# Altium schematic symbol library Test Development.SchLib: 36 symbols
Pins are listed as number, name and electrical type; pins without a type are passive.

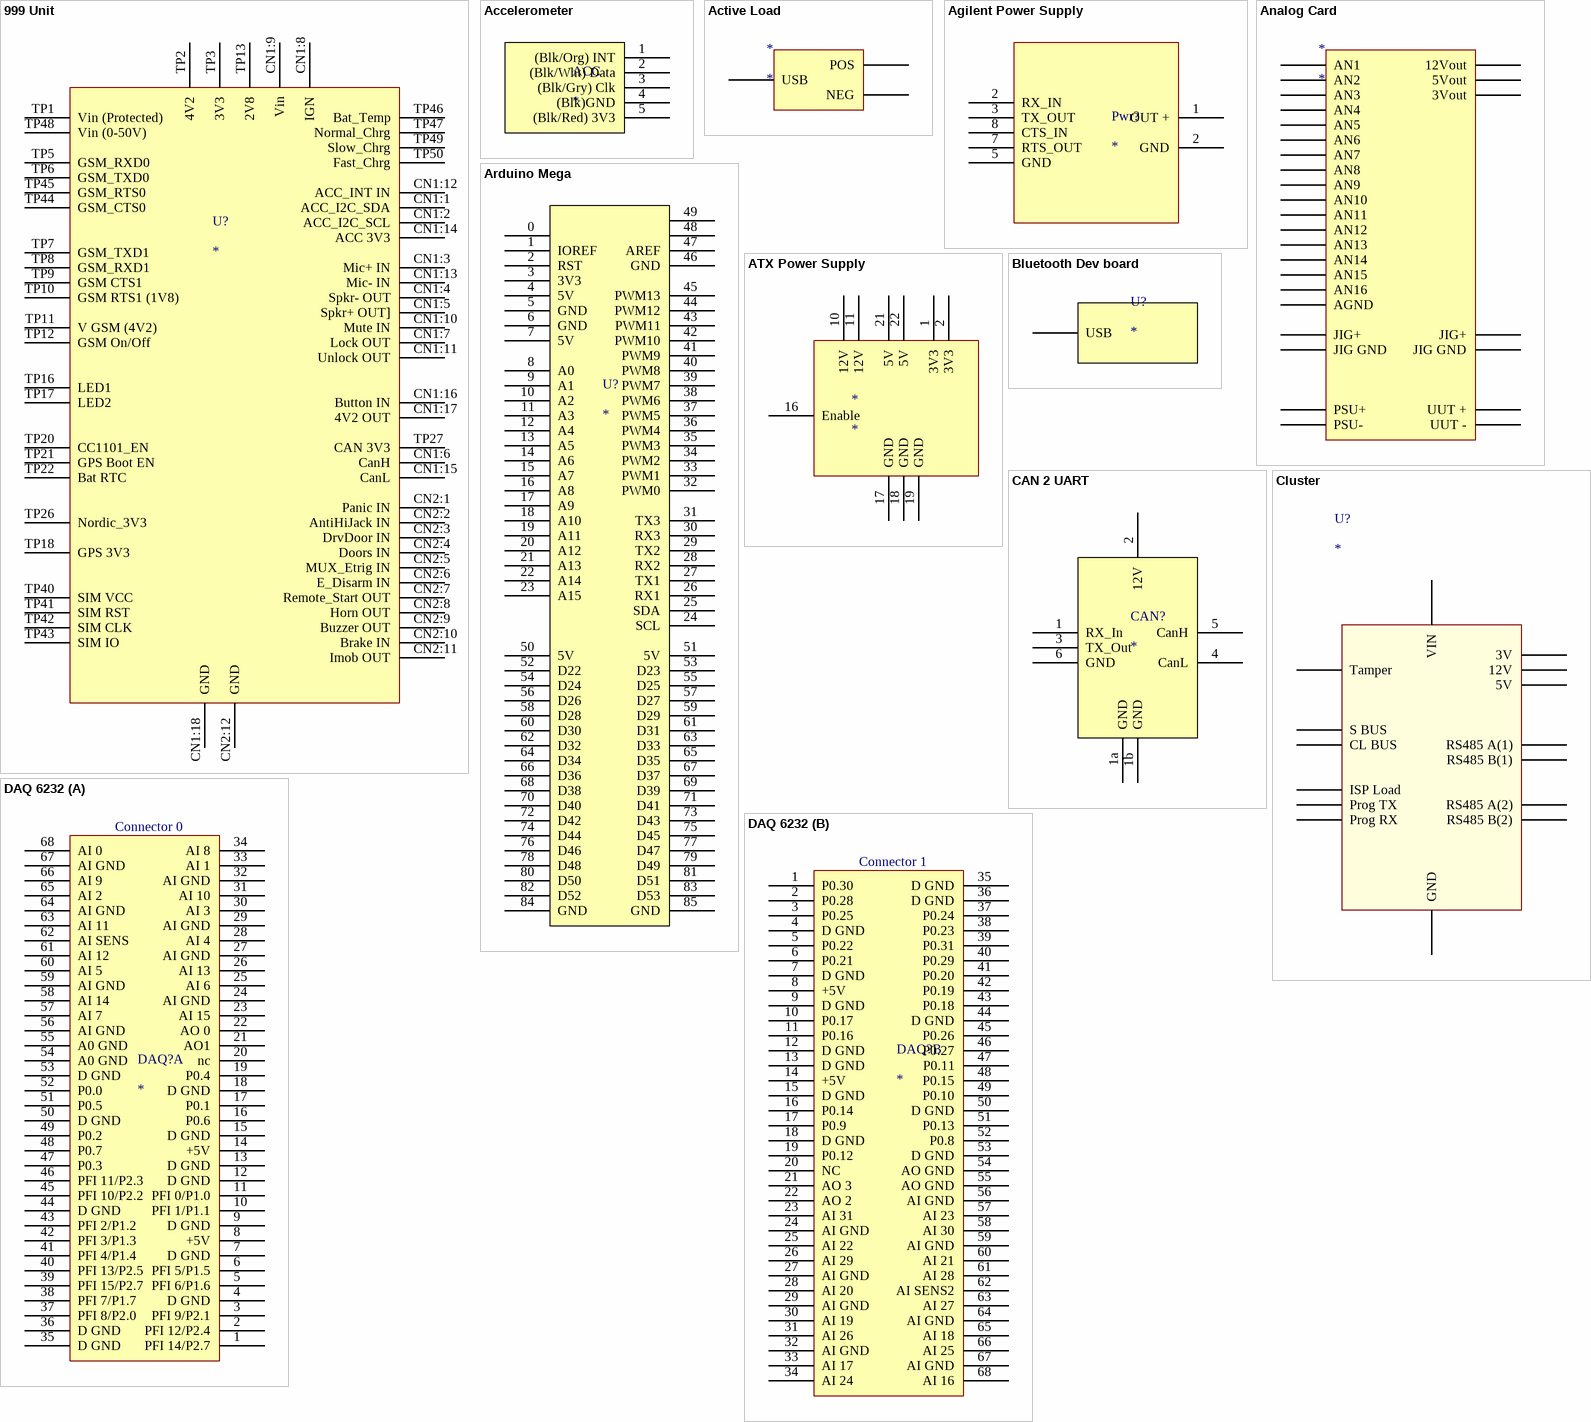
[diagram p0: symbols 999 Unit to DAQ 6232]

## 999 Unit
designator U?
999 Unit
pins: CN1:1 ACC_I2C_SDA, CN1:2 ACC_I2C_SCL, CN1:3 Mic+ IN, CN1:4 Spkr- OUT, CN1:5 Spkr+ OUT], CN1:6 CanH, CN1:7 Lock OUT, CN1:8 IGN, CN1:9 Vin, CN1:10 Mute IN, CN1:11 Unlock OUT, CN1:12 ACC_INT IN, CN1:13 Mic- IN, CN1:14 ACC 3V3, CN1:15 CanL, CN1:16 Button IN, CN1:17 4V2 OUT, CN1:18 GND, CN2:1 Panic IN, CN2:2 AntiHiJack IN, CN2:3 DrvDoor IN, CN2:4 Doors IN, CN2:5 MUX_Etrig IN, CN2:6 E_Disarm IN, CN2:7 Remote_Start OUT, CN2:8 Horn OUT, CN2:9 Buzzer OUT, CN2:10 Brake IN, CN2:11 Imob OUT, CN2:12 GND, TP1 Vin (Protected), TP2 4V2, TP3 3V3, TP5 GSM_RXD0, TP6 GSM_TXD0, TP7 GSM_TXD1, TP8 GSM_RXD1, TP9 GSM CTS1, TP10 GSM RTS1 (1V8), TP11 V GSM (4V2), TP12 GSM On/Off, TP13 2V8, TP16 LED1, TP17 LED2, TP18 GPS 3V3, TP20 CC1101_EN, TP21 GPS Boot EN, TP22 Bat RTC, TP26 Nordic_3V3, TP27 CAN 3V3, TP40 SIM VCC, TP41 SIM RST, TP42 SIM CLK, TP43 SIM IO, TP44 GSM_CTS0, TP45 GSM_RTS0, TP46 Bat_Temp, TP47 Normal_Chrg, TP48 Vin (0-50V), TP49 Slow_Chrg, TP50 Fast_Chrg

## Accelerometer
designator ACC
999-300 Accelerometer
pins: 1 (Blk/Org) INT, 2 (Blk/Wht) Data, 3 (Blk/Gry) Clk, 4 (Blk)GND, 5 (Blk/Red) 3V3

## Active Load
designator *
pins: 2 POS, 3 USB, 3 NEG

## Agilent Power Supply
designator Pwr?
Power Supply
pins: 1 OUT +, 2 RX_IN, 2 GND, 3 TX_OUT, 5 GND, 7 RTS_OUT, 8 CTS_IN

## Analog Card
designator *
pins: 6 AN1, 7 AN2, 8 AN3, 9 AN4, 10 AN5, 11 AN6, 12 AN7, 13 AN8, 14 AN9, 15 AN10, 16 AN11, 17 AN12, 18 AN13, 19 AN14, 20 AN15, 21 AN16, 22 AGND, 24 JIG+, 24 JIG GND, 24 12Vout, 25 PSU+, 25 PSU-, 25 5Vout, 25 JIG GND, 25 JIG+, 26 3Vout, 26 UUT +, 26 UUT -

## Arduino Mega
designator U?
Arduino DAQ
pins: 0, 1 IOREF, 2 RST, 3 3V3, 4 5V, 5 GND, 6 GND, 7 5V, 8 A0, 9 A1, 10 A2, 11 A3, 12 A4, 13 A5, 14 A6, 15 A7, 16 A8, 17 A9, 18 A10, 19 A11, 20 A12, 21 A13, 22 A14, 23 A15, 24 SCL, 25 SDA, 26 RX1, 27 TX1, 28 RX2, 29 TX2, 30 RX3, 31 TX3, 32 PWM0, 33 PWM1, 34 PWM2, 35 PWM3, 36 PWM4, 37 PWM5, 38 PWM6, 39 PWM7, 40 PWM8, 41 PWM9, 42 PWM10, 43 PWM11, 44 PWM12, 45 PWM13, 46 GND, 47 AREF, 48, 49, 50 5V, 51 5V, 52 D22, 53 D23, 54 D24, 55 D25, 56 D26, 57 D27, 58 D28, 59 D29, 60 D30, 61 D31, 62 D32, 63 D33, 64 D34, 65 D35, 66 D36, 67 D37, 68 D38, 69 D39, 70 D40, 71 D41, 72 D42, 73 D43, 74 D44, 75 D45, 76 D46, 77 D47, 78 D48, 79 D49, 80 D50, 81 D51, 82 D52, 83 D53, 84 GND, 85 GND

## ATX Power Supply
designator *
pins: 1 3V3, 2 3V3, 10 12V, 11 12V, 16 Enable, 17 GND, 18 GND, 19 GND, 21 5V, 22 5V

## Bluetooth Dev board
designator U?
USB to Can
pins: 3 USB

## CAN 2 UART
designator CAN?
Can to Uart
pins: 1 RX_In, 1a GND, 1b GND, 2 12V, 3 TX_Out, 4 CanL, 5 CanH, 6 GND

## Cluster
designator U?
pins: 0 RS485 A(1), 1 RS485 B(1), 1 RS485 A(2), 1 VIN, 1 CL BUS, 2 RS485 B(2), 2 GND, 2 12V, 2 S BUS, 3 5V, 4 3V, 10 Tamper, 17 Prog TX, 18 Prog RX, 18 ISP Load

## DAQ 6232
designator DAQ?
DAQ
part A pins: 1 PFI 14/P2.7, 2 PFI 12/P2.4, 3 PFI 9/P2.1, 4 D GND, 5 PFI 6/P1.6, 6 PFI 5/P1.5, 7 D GND, 8 +5V, 9 D GND, 10 PFI 1/P1.1, 11 PFI 0/P1.0, 12 D GND, 13 D GND, 14 +5V, 15 D GND, 16 P0.6, 17 P0.1, 18 D GND, 19 P0.4, 20 nc, 21 AO1, 22 AO 0, 23 AI 15, 24 AI GND, 25 AI 6, 26 AI 13, 27 AI GND, 28 AI 4, 29 AI GND, 30 AI 3, 31 AI 10, 32 AI GND, 33 AI 1, 34 AI 8, 35 D GND, 36 D GND, 37 PFI 8/P2.0, 38 PFI 7/P1.7, 39 PFI 15/P2.7, 40 PFI 13/P2.5, 41 PFI 4/P1.4, 42 PFI 3/P1.3, 43 PFI 2/P1.2, 44 D GND, 45 PFI 10/P2.2, 46 PFI 11/P2.3, 47 P0.3, 48 P0.7, 49 P0.2, 50 D GND, 51 P0.5, 52 P0.0, 53 D GND, 54 A0 GND, 55 A0 GND, 56 AI GND, 57 AI 7, 58 AI 14, 59 AI GND, 60 AI 5, 61 AI 12, 62 AI SENS, 63 AI 11, 64 AI GND, 65 AI 2, 66 AI 9, 67 AI GND, 68 AI 0
part B pins: 1 P0.30, 2 P0.28, 3 P0.25, 4 D GND, 5 P0.22, 6 P0.21, 7 D GND, 8 +5V, 9 D GND, 10 P0.17, 11 P0.16, 12 D GND, 13 D GND, 14 +5V, 15 D GND, 16 P0.14, 17 P0.9, 18 D GND, 19 P0.12, 20 NC, 21 AO 3, 22 AO 2, 23 AI 31, 24 AI GND, 25 AI 22, 26 AI 29, 27 AI GND, 28 AI 20, 29 AI GND, 30 AI 19, 31 AI 26, 32 AI GND, 33 AI 17, 34 AI 24, 35 D GND, 36 D GND, 37 P0.24, 38 P0.23, 39 P0.31, 40 P0.29, 41 P0.20, 42 P0.19, 43 P0.18, 44 D GND, 45 P0.26, 46 P0.27, 47 P0.11, 48 P0.15, 49 P0.10, 50 D GND, 51 P0.13, 52 P0.8, 53 D GND, 54 AO GND, 55 AO GND, 56 AI GND, 57 AI 23, 58 AI 30, 59 AI GND, 60 AI 21, 61 AI 28, 62 AI SENS2, 63 AI 27, 64 AI GND, 65 AI 18, 66 AI 25, 67 AI GND, 68 AI 16
part A text: Connector 0
part B text: Connector 1

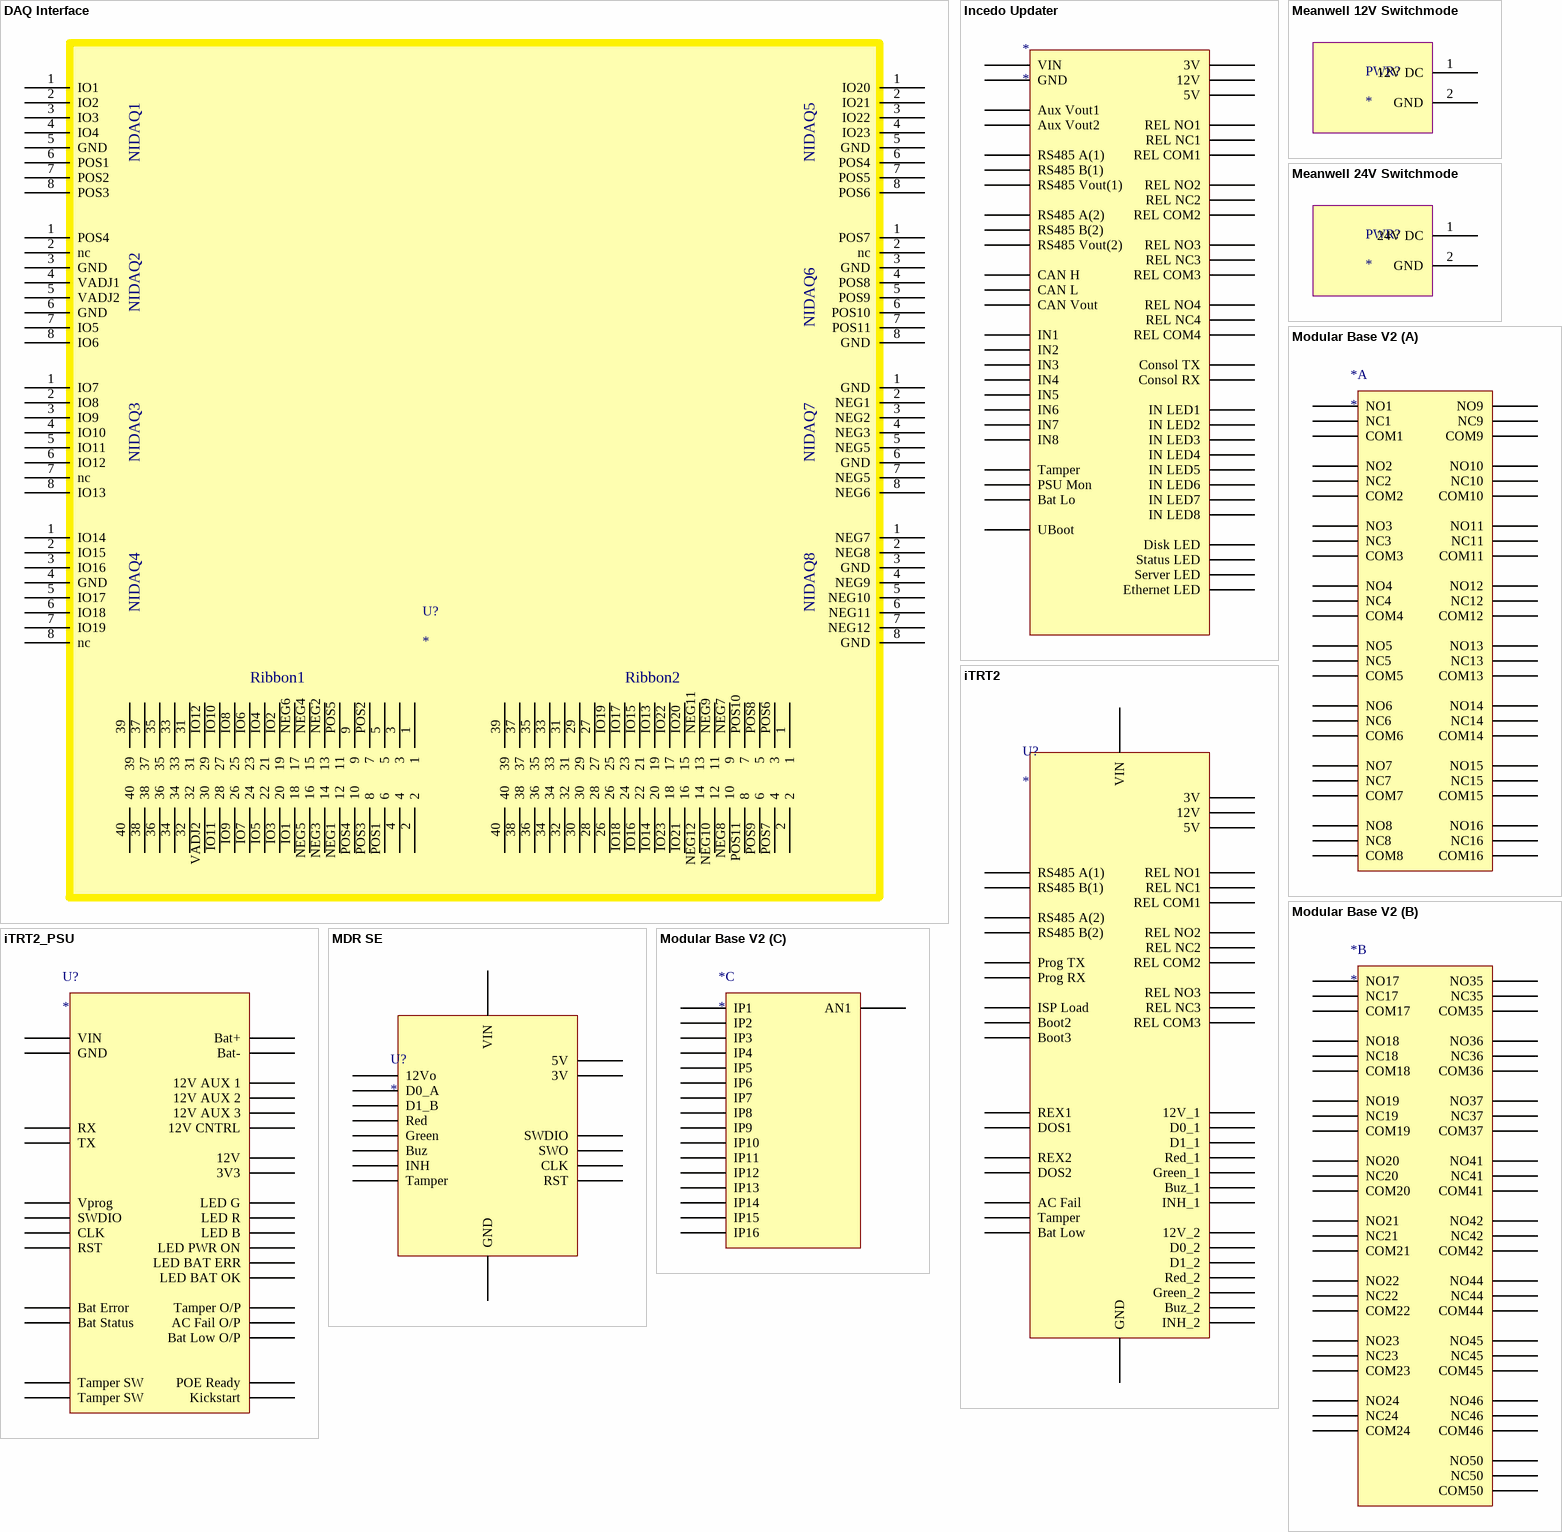
[diagram p1: symbols DAQ Interface to Modular Base V2]

## DAQ Interface
designator U?
DAQ Interface
pins: 1 IO1, 1, 1, 1 POS4, 1 IO7, 1 IO14, 1 IO20, 1 POS7, 1 GND, 1 NEG7, 2 IO2, 2, 2, 2 nc, 2 IO8, 2 IO15, 2 IO21, 2 nc, 2 NEG1, 2 NEG8, 3 IO3, 3, 3 GND, 3 IO9, 3 IO16, 3 IO22, 3 GND, 3 NEG2, 3 GND, 4 IO4, 4, 4 VADJ1, 4 IO10, 4 GND, 4 IO23, 4 POS8, 4 NEG3, 4 NEG9, 5 GND, 5, 5 VADJ2, 5 IO11, 5 IO17, 5 GND, 5 POS9, 5 NEG5, 5 NEG10, 6 POS1, 6 GND, 6 IO12, 6 IO18, 6 POS4, 6 POS10, 6 GND, 6 NEG11, 7 POS2, 7 IO5, 7 nc, 7 IO19, 7 POS5, 7 POS11, 7 NEG5, 7 NEG12, 8 POS3, 8 IO6, 8 IO13, 8 nc, 8 POS6, 8 GND, 8 NEG6, 8 GND, 9, 26, 27, 28, 29, 30, 31, 31, 32, 32, 33, 33, 34, 34, 35, 35, 36, 36, 37, 37, 38, 38, 39, 39, 40, 40, IO1 18, IO2 19, IO3 20, IO4 21, IO5 22, IO6 23, IO7 24, IO8 25, IO9 26, IO10 27, IO11 28, IO12 29, IO13 19, IO14 20, IO15 21, IO16 22, IO17 23, IO18 24, IO19 25, IO20 15, IO21 16, IO22 17, IO23 18, NEG1 12, NEG2 13, NEG3 14, NEG4 15, NEG5 16, NEG6 17, NEG7 9, NEG8 10, NEG9 11, NEG10 12, NEG11 13, NEG12 14, POS1 6, POS2 7, POS3 8, POS4 10, POS5 11, POS6 3, POS7 4, POS8 5, POS9 6, POS10 7, POS11 8, VADJ2 30
text: NIDAQ1; NIDAQ5; NIDAQ2; NIDAQ6; NIDAQ3; NIDAQ7; NIDAQ4; NIDAQ8; Ribbon1; Ribbon2

## Incedo Updater
designator *
pins: 0 RS485 A(1), 1 RS485 B(1), 1 RS485 A(2), 1 VIN, 2 RS485 B(2), 2 GND, 2 RS485 Vout(1), 2 12V, 3 CAN H, 3 RS485 Vout(2), 3 5V, 4 CAN L, 4 CAN Vout, 4 3V, 5 IN1, 6 IN2, 6 REL NO1, 6 IN LED1, 7 IN3, 7 REL NO2, 7 REL NC1, 7 IN LED2, 7 REL NO3, 8 IN4, 8 REL NC2, 8 REL COM1, 8 IN LED3, 8 REL NO4, 8 REL NC3, 9 IN5, 9 REL COM2, 9 IN LED4, 9 REL NC4, 9 REL COM3, 10 IN6, 10 IN LED5, 10 Aux Vout1, 10 REL COM4, 11 IN7, 11 IN LED6, 11 Aux Vout2, 12 IN8, 12 IN LED7, 13 Tamper, 13 IN LED8, 14 PSU Mon, 14 Disk LED, 15 Bat Lo, 15 Status LED, 16 UBoot, 16 Server LED, 17 Consol TX, 17 Ethernet LED, 18 Consol RX

## iTRT2
designator U?
pins: 0 RS485 A(1), 1 RS485 B(1), 1 RS485 A(2), 1 VIN, 2 RS485 B(2), 2 GND, 2 12V, 3 5V, 4 3V, 5 REX1, 6 DOS1, 6 REL NO1, 6 12V_1, 7 REX2, 7 REL NO2, 7 REL NC1, 7 D0_1, 7 REL NO3, 7 12V_2, 8 DOS2, 8 REL NC2, 8 REL COM1, 8 D1_1, 8 REL NC3, 8 D0_2, 9 AC Fail, 9 REL COM2, 9 Red_1, 9 REL COM3, 9 D1_2, 10 Tamper, 10 Green_1, 10 Red_2, 11 Bat Low, 11 Buz_1, 11 Green_2, 12 INH_1, 12 Buz_2, 13 INH_2, 16 ISP Load, 17 Prog TX, 17 Boot2, 18 Prog RX, 18 Boot3

## iTRT2_PSU
designator U?
pins: 0 Bat+, 1 Bat-, 1 VIN, 2 GND, 2 LED R, 3 LED PWR ON, 4 LED G, 4 LED B, 4 LED BAT ERR, 5 RX, 5 LED BAT OK, 6 TX, 6 12V AUX 1, 6 3V3, 7 SWDIO, 7 12V CNTRL, 7 12V AUX 2, 7 12V, 7 Bat Low O/P, 8 CLK, 8 Tamper O/P, 8 12V AUX 3, 8 Bat Error, 8 POE Ready, 9 RST, 9 AC Fail O/P, 9 Bat Status, 9 Kickstart, 10 Vprog, 11 Tamper SW, 12 Tamper SW

## MDR SE
designator U?
pins: 1 VIN, 2 GND, 3 5V, 4 3V, 6 12Vo, 7 D0_A, 8 D1_B, 9 Red, 10 Green, 11 Buz, 12 INH, 13 Tamper, 17 SWDIO, 18 SWO, 19 CLK, 20 RST

## Meanwell 12V Switchmode
designator PWR?
24V Power Supply
pins: 1 12V DC, 2 GND

## Meanwell 24V Switchmode
designator PWR?
24V Power Supply
pins: 1 24V DC, 2 GND

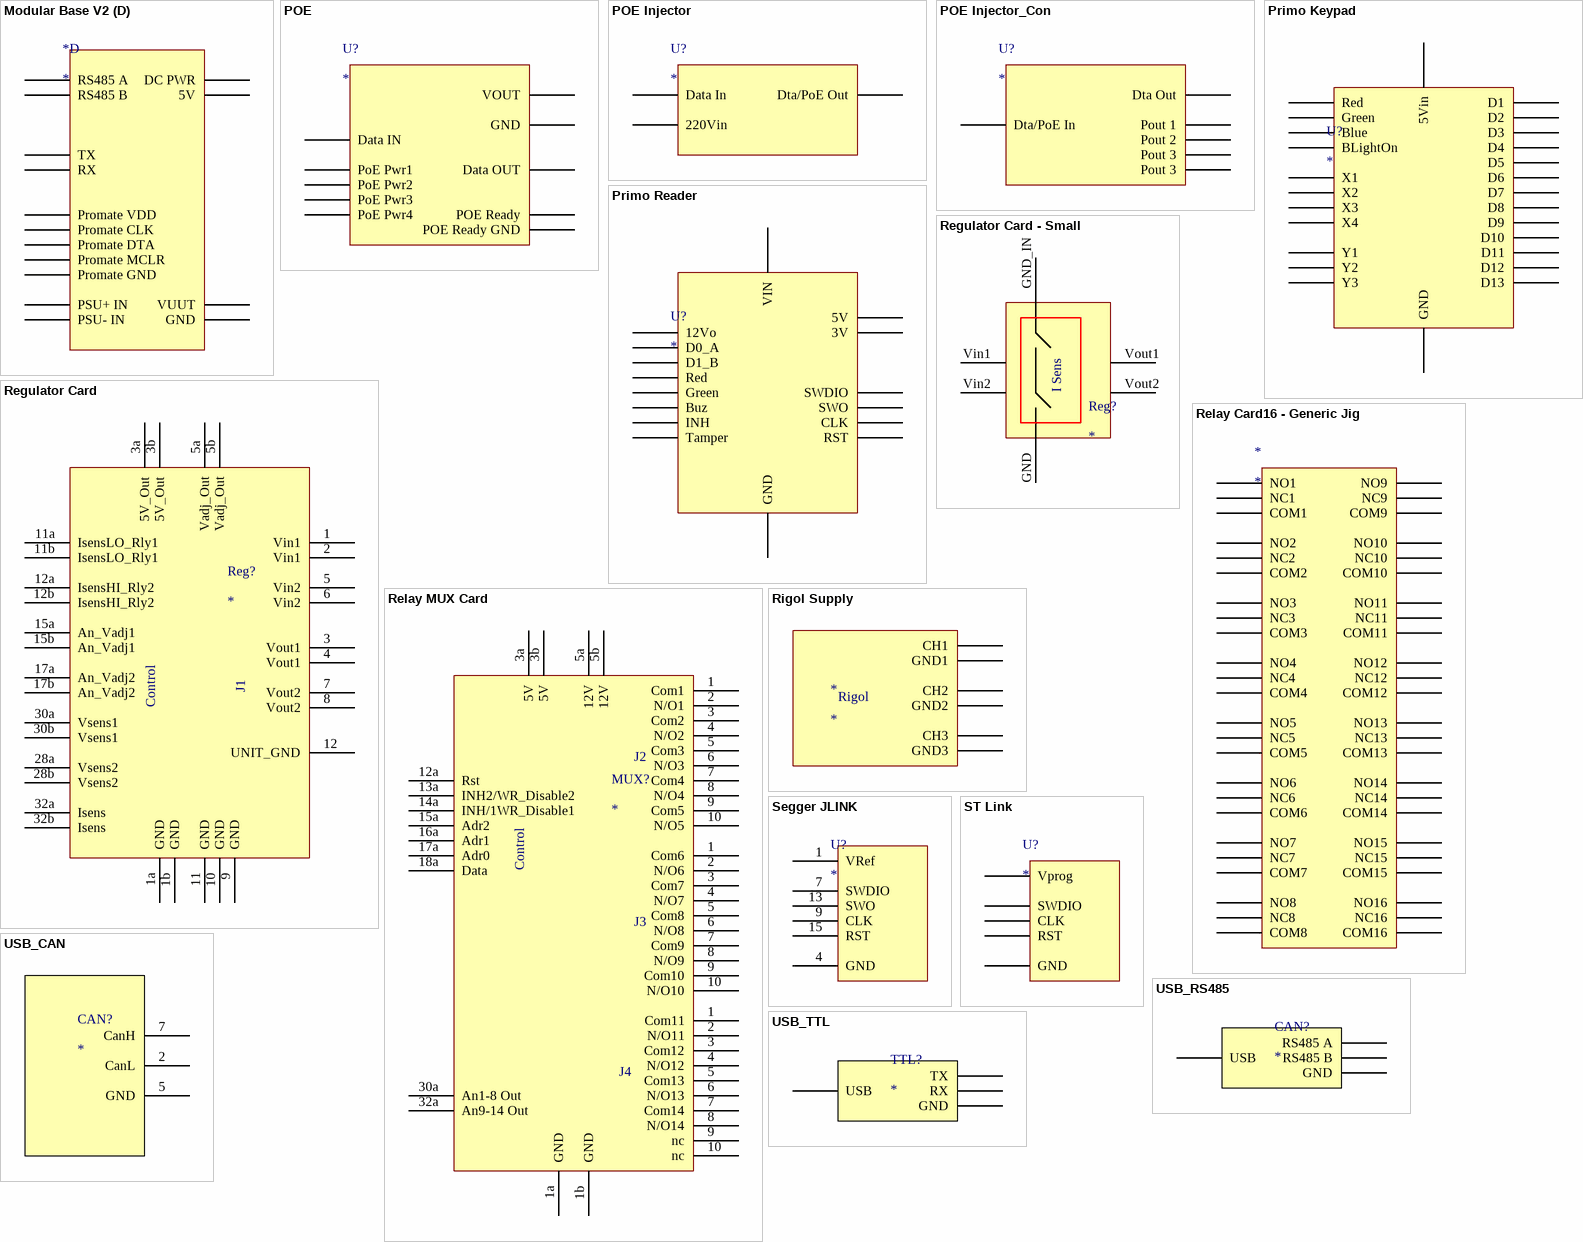
[diagram p2: symbols Modular Base V2 to USB_TTL]

## Modular Base V2
designator *
part A pins: 3 NO1, 4 NC1, 4 NO2, 5 COM1, 5 NC2, 5 NO3, 6 COM2, 6 NC3, 6 NO4, 7 COM3, 7 NC4, 7 NO5, 8 COM4, 8 NC5, 8 NO6, 9 COM5, 9 NC6, 9 NO7, 10 COM6, 10 NC7, 10 NO8, 11 COM7, 11 NC8, 11 NO9, 12 COM8, 12 NC9, 12 NO10, 13 COM9, 13 NC10, 13 NO11, 14 COM10, 14 NC11, 14 NO12, 15 COM11, 15 NC12, 15 NO13, 16 COM12, 16 NC13, 16 NO14, 17 COM13, 17 NC14, 17 NO15, 18 COM14, 18 NC15, 18 NO16, 19 COM15, 19 NC16, 20 COM16
part B pins: 3 NO17, 4 NC17, 4 NO18, 5 COM17, 5 NC18, 5 NO19, 6 COM18, 6 NC19, 6 NO20, 7 COM19, 7 NC20, 7 NO21, 8 COM20, 8 NC21, 8 NO22, 9 COM21, 9 NC22, 9 NO23, 10 COM22, 10 NC23, 10 NO24, 11 COM23, 11 NC24, 11 NO35, 12 COM24, 12 NC35, 12 NO36, 13 COM35, 13 NC36, 13 NO37, 14 COM36, 14 NC37, 14 NO41, 15 COM37, 15 NC41, 15 NO42, 16 COM41, 16 NC42, 16 NO44, 17 COM42, 17 NC44, 17 NO45, 18 COM44, 18 NC45, 18 NO46, 19 COM45, 19 NC46, 19 NO50, 20 COM46, 20 NC50, 21 COM50
part C pins: 3 IP1, 4 IP2, 4 AN1, 5 IP3, 6 IP4, 7 IP5, 8 IP6, 9 IP7, 10 IP8, 11 IP9, 12 IP10, 13 IP11, 14 IP12, 15 IP13, 16 IP14, 17 IP15, 18 IP16
part D pins: 3 RS485 A, 4 RS485 B, 4 TX, 4 DC PWR, 5 RX, 5 5V, 5 PSU+ IN, 6 Promate VDD, 6 PSU- IN, 6 GND, 7 Promate CLK, 7 VUUT, 8 Promate DTA, 9 Promate MCLR, 10 Promate GND

## POE
designator U?
pins: 1 VOUT, 2 GND, 5 Data IN, 6 Data OUT, 6 PoE Pwr1, 7 PoE Pwr2, 8 POE Ready, 8 PoE Pwr3, 9 POE Ready GND, 9 PoE Pwr4

## POE Injector
designator U?
pins: 5 Dta/PoE Out, 6 Data In, 8 220Vin

## POE Injector_Con
designator U?
pins: 5 Pout 1, 6 Dta/PoE In, 6 Dta Out, 6 Pout 2, 7 Pout 3, 8 Pout 3

## Primo Keypad
designator U?
pins: 1 5Vin, 2 GND, 4 D1, 5 D2, 6 D3, 7 D4, 8 D5, 9 Red, 9 D6, 10 Green, 10 D7, 11 X1, 11 Blue, 11 D8, 12 X2, 12 D9, 13 X3, 13 D10, 14 X4, 14 D11, 15 Y1, 15 D12, 16 Y2, 16 D13, 17 Y3, 18 BLightOn

## Primo Reader
designator U?
pins: 1 VIN, 2 GND, 3 5V, 4 3V, 6 12Vo, 7 D0_A, 8 D1_B, 9 Red, 10 Green, 11 Buz, 12 INH, 13 Tamper, 17 SWDIO, 18 SWO, 19 CLK, 20 RST

## Regulator Card
designator Reg?
Multiplexed Relay Card
pins: 1 Vin1, 1a GND, 1b GND, 2 Vin1, 3 Vout1, 3a 5V_Out, 3b 5V_Out, 4 Vout1, 5 Vin2, 5a Vadj_Out, 5b Vadj_Out, 6 Vin2, 7 Vout2, 8 Vout2, 9 GND, 10 GND, 11 GND, 11a IsensLO_Rly1, 11b IsensLO_Rly1, 12 UNIT_GND, 12a IsensHI_Rly2, 12b IsensHI_Rly2, 15a An_Vadj1, 15b An_Vadj1, 17a An_Vadj2, 17b An_Vadj2, 28a Vsens2, 28b Vsens2, 30a Vsens1, 30b Vsens1, 32a Isens, 32b Isens
text: J1; Control

## Regulator Card - Small
designator Reg?
Relay Card Symbol
pins: GND, GND_IN GND_I, Vin1, Vin2, Vout1, Vout2
text: I Sens

## Relay Card16 - Generic Jig
designator *
pins: 3 NO1, 4 NC1, 4 NO2, 5 COM1, 5 NC2, 5 NO3, 6 COM2, 6 NC3, 6 NO4, 7 COM3, 7 NC4, 7 NO5, 8 COM4, 8 NC5, 8 NO6, 9 COM5, 9 NC6, 9 NO7, 10 COM6, 10 NC7, 10 NO8, 11 COM7, 11 NC8, 11 NO9, 12 COM8, 12 NC9, 12 NO10, 13 COM9, 13 NC10, 13 NO11, 14 COM10, 14 NC11, 14 NO12, 15 COM11, 15 NC12, 15 NO13, 16 COM12, 16 NC13, 16 NO14, 17 COM13, 17 NC14, 17 NO15, 18 COM14, 18 NC15, 18 NO16, 19 COM15, 19 NC16, 20 COM16

## Relay MUX Card
designator MUX?
Relay Card
pins: 1 Com1, 1 Com6, 1 Com11, 1a GND, 1b GND, 2 N/O1, 2 N/O6, 2 N/O11, 3 Com2, 3 Com7, 3 Com12, 3a 5V, 3b 5V, 4 N/O2, 4 N/O7, 4 N/O12, 5 Com3, 5 Com8, 5 Com13, 5a 12V, 5b 12V, 6 N/O3, 6 N/O8, 6 N/O13, 7 Com4, 7 Com9, 7 Com14, 8 N/O4, 8 N/O9, 8 N/O14, 9 Com5, 9 Com10, 9 nc, 10 N/O5, 10 N/O10, 10 nc, 12a Rst, 13a INH2/WR_Disable2, 14a INH/1WR_Disable1, 15a Adr2, 16a Adr1, 17a Adr0, 18a Data, 30a An1-8 Out, 32a An9-14 Out
text: J2; Control; J3; J4

## Rigol Supply
designator *
pins: 0 CH1, 1 CH2, 2 CH3, 3 GND1, 4 GND2, 5 GND3
text: Rigol

## Segger JLINK
designator U?
pins: 1 VRef, 4 GND, 7 SWDIO, 9 CLK, 13 SWO, 15 RST

## ST Link
designator U?
pins: 2 GND, 7 SWDIO, 8 CLK, 9 RST, 10 Vprog

## USB_CAN
designator CAN?
USB to Can
pins: 2 CanL, 5 GND, 7 CanH

## USB_RS485
designator CAN?
USB to Can
pins: 2 RS485 B, 3 USB, 5 GND, 7 RS485 A

## USB_TTL
designator TTL?
USB to Can
pins: 2 RX, 3 USB, 5 GND, 7 TX

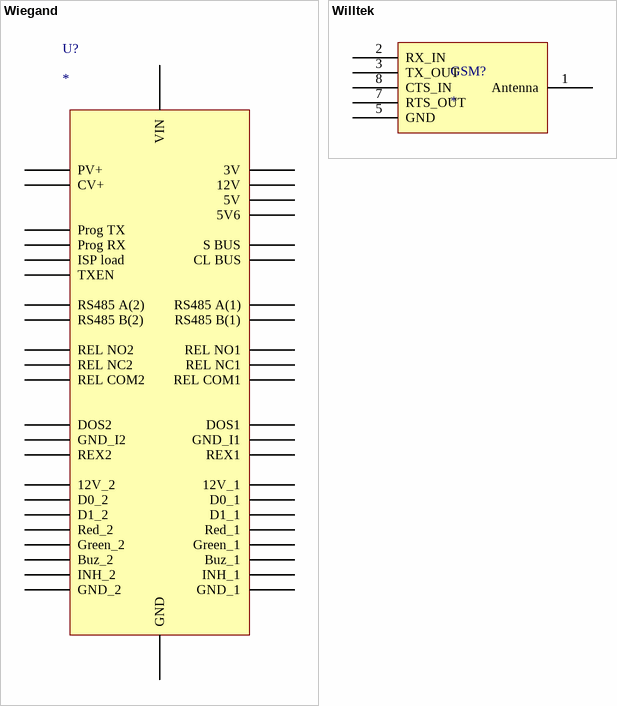
[diagram p3: symbols Wiegand to Willtek]

## Wiegand
designator U?
pins: 0 RS485 A(1), 1 RS485 B(1), 1 RS485 A(2), 1 VIN, 1 S BUS, 2 RS485 B(2), 2 GND, 2 12V, 2 CL BUS, 3 5V, 4 3V, 4 5V6, 5 REX1, 5 CV+, 6 DOS1, 6 REL NO1, 6 12V_1, 6 PV+, 7 REX2, 7 REL NO2, 7 REL NC1, 7 D0_1, 7 12V_2, 8 DOS2, 8 REL NC2, 8 REL COM1, 8 D1_1, 8 D0_2, 9 REL COM2, 9 Red_1, 9 D1_2, 9 GND_I2, 10 Green_1, 10 Red_2, 10 GND_I1, 11 Buz_1, 11 Green_2, 12 INH_1, 12 Buz_2, 13 INH_2, 13 GND_1, 14 GND_2, 17 Prog TX, 18 Prog RX, 19 ISP load, 20 TXEN

## Willtek
designator GSM?
GSM RadioTester
pins: 1 Antenna, 2 RX_IN, 3 TX_OUT, 5 GND, 7 RTS_OUT, 8 CTS_IN